# EAGLE library part ICL7673CBAZA (library Intersil_By_element14_Batch_1)
BACK UP SWITCH
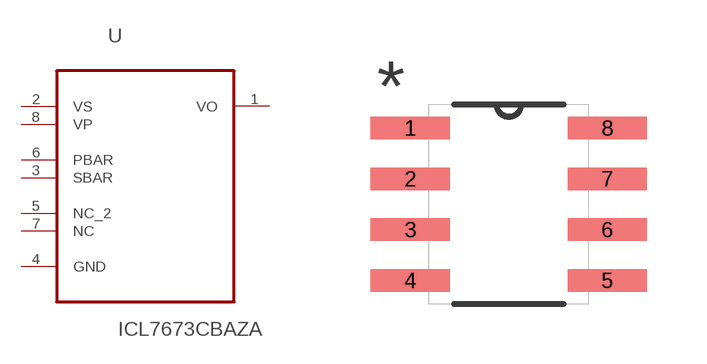
[diagram p200: symbol with the pads of SOIC127P600X175-8N; footprint SOIC127P600X175-8N]

Designator prefix U

## ICL7673CBAZA (MPN: ICL7673CBAZA; OC_FARNELL: 9663746; OC_NEWARK: 92K0566; PACKAGE: SOIC-8; SUPPLIER: Intersil)  [SOIC127P600X175-8N]
1  VO  out
2  VS  pwr
3  SBAR  in
4  GND  pas
5  NC_2  nc
6  PBAR  in
7  NC  nc
8  VP  pas

## Footprint SOIC127P600X175-8N (pad centres in mm)
smd 1.981 x 0.559: 1 -2.464,1.905; 2 -2.464,0.635; 3 -2.464,-0.635; 4 -2.464,-1.905; 5 2.464,-1.905; 6 2.464,-0.635; 7 2.464,0.635; 8 2.464,1.905